# Altium schematic symbol library LED.SchLib: 4 symbols
Pins are listed as number, name and electrical type; pins without a type are passive.

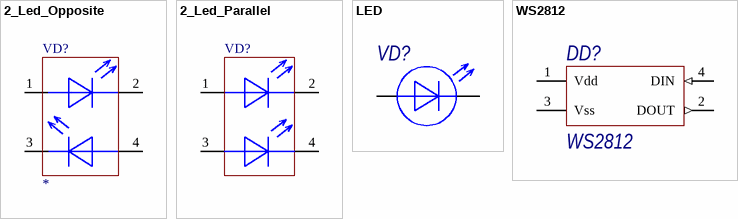
[diagram p0: symbols 2_Led_Opposite to WS2812]

## 2_Led_Opposite
designator VD?
Name: *
footprint LED_3528
pins: 1, 2, 3, 4

## 2_Led_Parallel
designator VD?
footprint LED_3025
pins: 1, 2, 3, 4

## LED
designator VD?  (value not drawn)
Name: *; Value: *; Body: *
footprint LED 0603_Blue (Chip LED, 2-Leads, Body 1,60x0,85mm, IPC Medium Density)
footprint LED 0603_Green (Chip LED, 2-Leads, Body 1,60x0,85mm, IPC Medium Density)
footprint LED 0603_RED (Chip LED, 2-Leads, Body 1,60x0,85mm, IPC Medium Density)
footprint LED 0603_White (Chip LED, 2-Leads, Body 1,60x0,85mm, IPC Medium Density)
footprint LED 0603_Yellow (Chip LED, 2-Leads, Body 1,60x0,85mm, IPC Medium Density)
footprint LED_1206_GREEN (Molded Diode, 2-Leads, Body 3,20x1,60mm, IPC Medium Density)
footprint LED_1206_RED (Molded Diode, 2-Leads, Body 3,20x1,60mm, IPC Medium Density)
pins: 1, 2

## WS2812
designator DD?
footprint LED_5050
pins: 1 Vdd (power), 2 DOUT (out), 3 Vss (power), 4 DIN (in)